# EAGLE library part EPIC2-HEADER (library epic2)
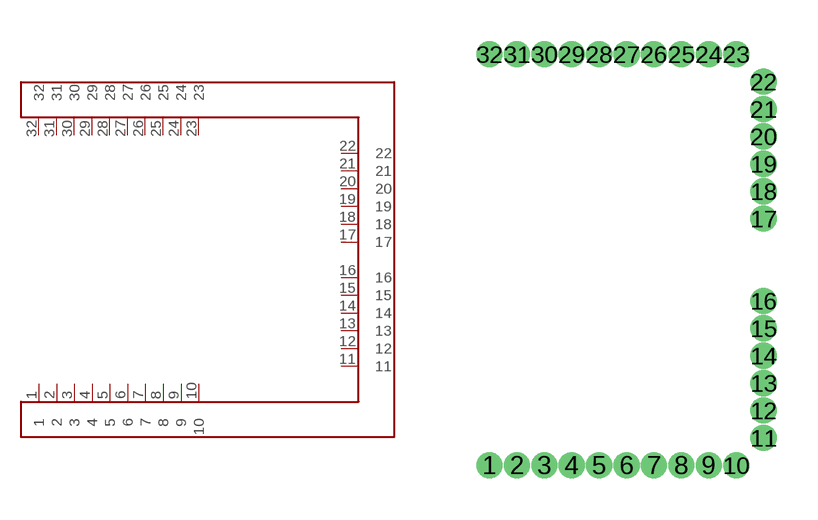
[diagram p0: symbol with the pads of EPIC2-HEADER; footprint EPIC2-HEADER]

Designator prefix -

## EPIC2-HEADER  [EPIC2-HEADER]
1  1
2  2
3  3
4  4
5  5
6  6
7  7
8  8
9  9
10  10
11  11
12  12
13  13
14  14
15  15
16  16
17  17
18  18
19  19
20  20
21  21
22  22
23  23
24  24
25  25
26  26
27  27
28  28
29  29
30  30
31  31
32  32

## Footprint EPIC2-HEADER (pad centres in mm)
drill 0.45 pad 0.8: 1 -10,-7.5; 2 -9,-7.5; 3 -8,-7.5; 4 -7,-7.5; 5 -6,-7.5; 6 -5,-7.5; 7 -4,-7.5; 8 -3,-7.5; 9 -2,-7.5; 10 -1,-7.5; 11 0,-6.5; 12 0,-5.5; 13 0,-4.5; 14 0,-3.5; 15 0,-2.5; 16 0,-1.5; 17 0,1.5; 18 0,2.5; 19 0,3.5; 20 0,4.5; 21 0,5.5; 22 0,6.5; 23 -1,7.5; 24 -2,7.5; 25 -3,7.5; 26 -4,7.5; 27 -5,7.5; 28 -6,7.5; 29 -7,7.5; 30 -8,7.5; 31 -9,7.5; 32 -10,7.5